# Altium footprint library CR Battery Holders.PcbLib: 1 footprints
Each footprint in its own frame and in the unit in brackets; x right, y up, seen from the top. Pads: shape width x height; smd on the part's side, far side on the other; paste and mask are expansions set on the pad; w line width, h text height; cw(c..) or ccw(c..) is an arc to the next point about the centre after c.
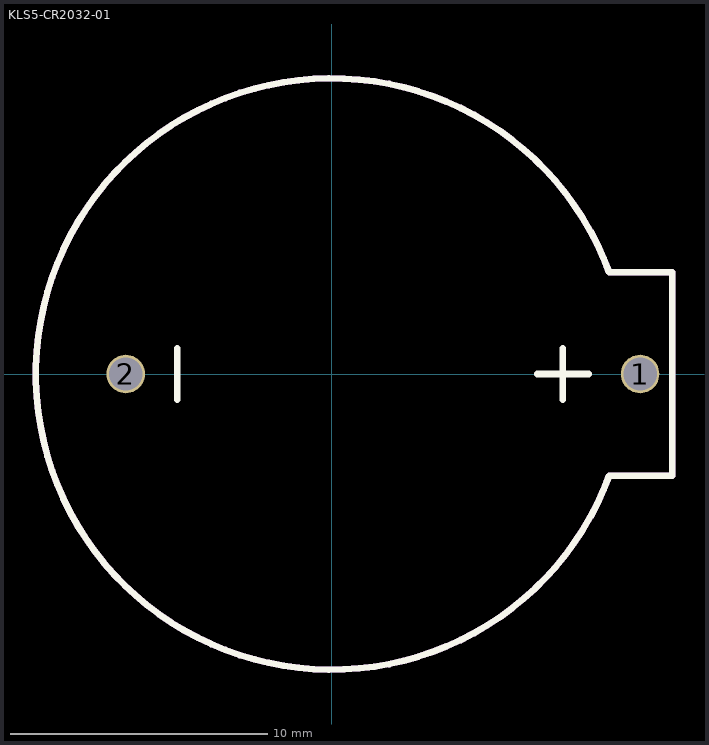
[diagram p0: the footprint, top view; thin cyan lines are the x and y axes]

## KLS5-CR2032-01 [mm] "CR2032 battery holder footprint"
height 8.7
pads (2):
  round 1.5 hole 1.3: 1(12,0) 2(-8,0)
Top Overlay:
  lines w0.254: -6,-1 -6,1 ; 8,0 10,0 ; 9,-1 9,1 ; 10.8,-3.95 cw(c0,0) 10.8,3.95 13.25,3.95 13.25,-3.95 10.8,-3.95
Mechanical 1:
  lines w0.254: 10.8,-3.95 cw(c0,0) 10.8,3.95 13.25,3.95 13.25,-3.95 10.8,-3.95
3D body "User Library-CR2032_HOR_HOLD.SLDPRT": height 8.5, standoff -4, extent -11.25,-11 13.25,11